# EAGLE library part REG_MOD (library MINI_MODULE_A)
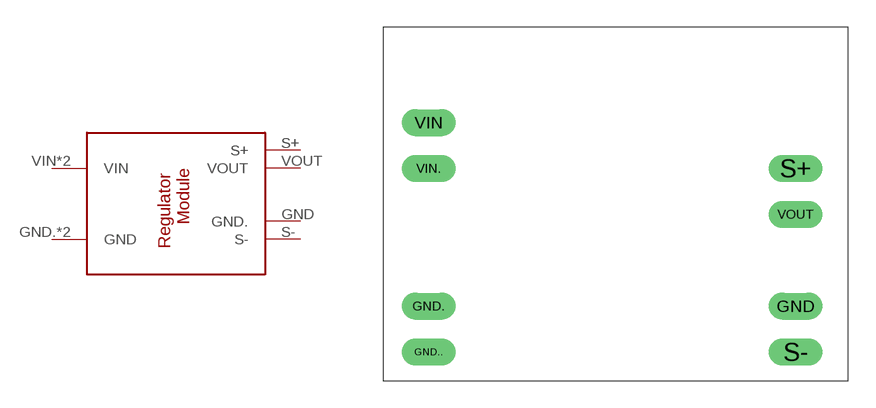
[diagram p0: symbol with the pads of MINI_MODULE; footprint MINI_MODULE]

Designator prefix -

## REG_MOD  [MINI_MODULE]
GND  GND.
GND.  GND
GND..  GND
S+  S+
S-  S-
VIN  VIN
VIN.  VIN
VOUT  VOUT

## Footprint MINI_MODULE (pad centres in mm)
drill 1 long: GND 9.207,-5.397; GND. -11.113,-5.397; GND.. -11.113,-7.938; S+ 9.207,2.223; S- 9.207,-7.938; VIN -11.113,4.763; VIN. -11.113,2.223; VOUT 9.207,-0.318